# Altium schematic symbol library Schlib2.SchLib: 1 symbol
Pins are listed as number, name and electrical type; pins without a type are passive.

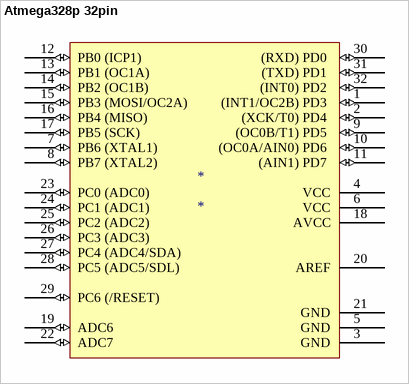
[diagram p0: symbol Atmega328p 32pin]

## Atmega328p 32pin
designator *
footprint ATMEGA8
pins: 1 (INT1/OC2B) PD3  (io), 2 (XCK/T0) PD4  (io), 3 GND (power), 4 VCC (power), 5 GND (power), 6 VCC (power), 7 PB6 (XTAL1) (io), 8 PB7 (XTAL2) (io), 9 (OC0B/T1) PD5  (io), 10 (OC0A/AIN0) PD6  (io), 11 (AIN1) PD7  (io), 12 PB0 (ICP1) (io), 13 PB1 (OC1A) (io), 14 PB2 (OC1B) (io), 15 PB3 (MOSI/OC2A) (io), 16 PB4 (MISO) (io), 17 PB5 (SCK) (io), 18 AVCC (power), 19 ADC6 (io), 20 AREF (power), 21 GND (power), 22 ADC7 (io), 23 PC0 (ADC0) (io), 24 PC1 (ADC1) (io), 25 PC2 (ADC2) (io), 26 PC3 (ADC3) (io), 27 PC4 (ADC4/SDA) (io), 28 PC5 (ADC5/SDL) (io), 29 PC6 (/RESET) (io), 30 (RXD) PD0  (io), 31 (TXD) PD1  (io), 32 (INT0) PD2  (io)